# Altium schematic symbol library Principle Gallery.SCHLIB: 16 symbols
Pins are listed as number, name and electrical type; pins without a type are passive.

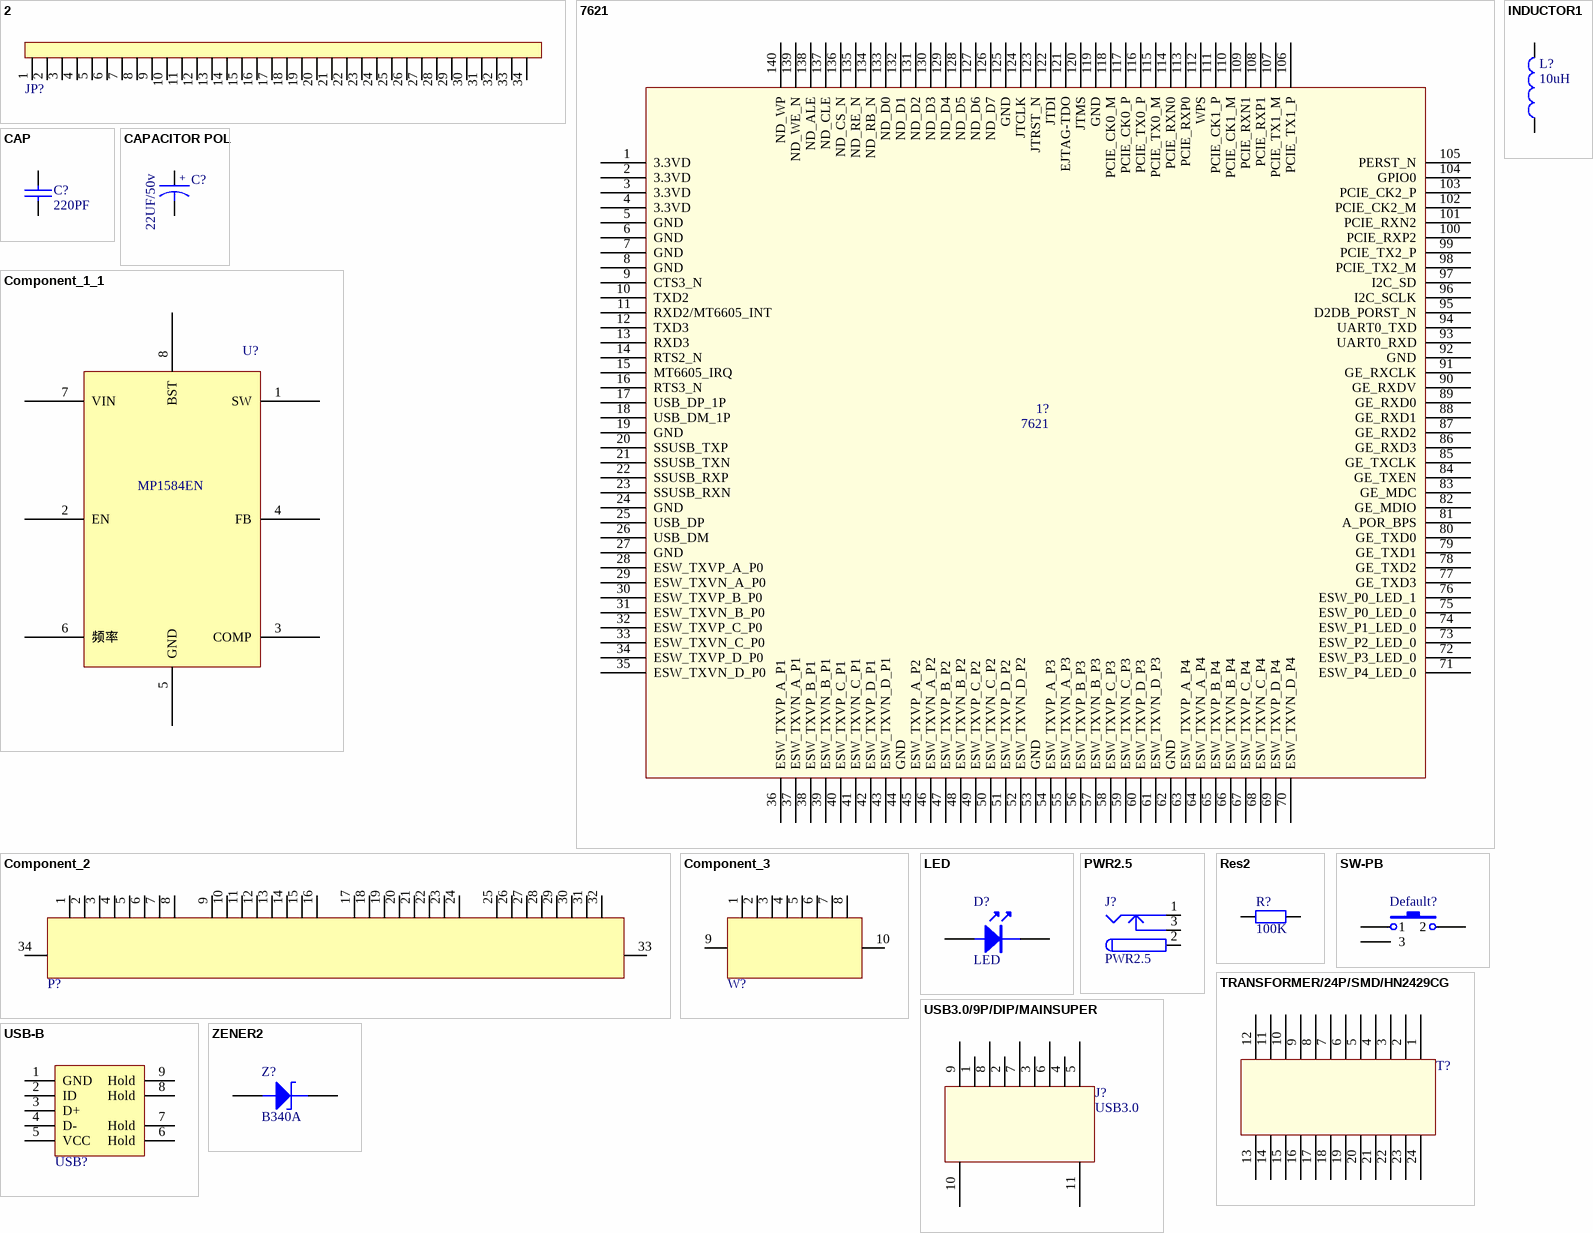
[diagram p0: symbols 2 to ZENER2]

## 2
designator JP?  (value not drawn)
footprint HDR2X17
footprint HDR2X17 (Connector; Header; 17x2 Position)
pins: 1, 2, 3, 4, 5, 6, 7, 8, 9, 10, 11, 12, 13, 14, 15, 16, 17, 18, 19, 20, 21, 22, 23, 24, 25, 26, 27, 28, 29, 30, 31, 32, 33, 34

## 7621
designator 1?
footprint HLK-7621
pins: 1 3.3VD, 2 3.3VD, 3 3.3VD, 4 3.3VD, 5 GND, 6 GND, 7 GND, 8 GND, 9 CTS3_N, 10 TXD2, 11 RXD2/MT6605_INT, 12 TXD3, 13 RXD3, 14 RTS2_N, 15 MT6605_IRQ, 16 RTS3_N, 17 USB_DP_1P, 18 USB_DM_1P, 19 GND, 20 SSUSB_TXP, 21 SSUSB_TXN, 22 SSUSB_RXP, 23 SSUSB_RXN, 24 GND, 25 USB_DP, 26 USB_DM, 27 GND, 28 ESW_TXVP_A_P0, 29 ESW_TXVN_A_P0, 30 ESW_TXVP_B_P0, 31 ESW_TXVN_B_P0, 32 ESW_TXVP_C_P0, 33 ESW_TXVN_C_P0, 34 ESW_TXVP_D_P0, 35 ESW_TXVN_D_P0, 36 ESW_TXVP_A_P1, 37 ESW_TXVN_A_P1, 38 ESW_TXVP_B_P1, 39 ESW_TXVN_B_P1, 40 ESW_TXVP_C_P1, 41 ESW_TXVN_C_P1, 42 ESW_TXVP_D_P1, 43 ESW_TXVN_D_P1, 44 GND, 45 ESW_TXVP_A_P2, 46 ESW_TXVN_A_P2, 47 ESW_TXVP_B_P2, 48 ESW_TXVN_B_P2, 49 ESW_TXVP_C_P2, 50 ESW_TXVN_C_P2, 51 ESW_TXVP_D_P2, 52 ESW_TXVN_D_P2, 53 GND, 54 ESW_TXVP_A_P3, 55 ESW_TXVN_A_P3, 56 ESW_TXVP_B_P3, 57 ESW_TXVN_B_P3, 58 ESW_TXVP_C_P3, 59 ESW_TXVN_C_P3, 60 ESW_TXVP_D_P3, 61 ESW_TXVN_D_P3, 62 GND, 63 ESW_TXVP_A_P4, 64 ESW_TXVN_A_P4, 65 ESW_TXVP_B_P4, 66 ESW_TXVN_B_P4, 67 ESW_TXVP_C_P4, 68 ESW_TXVN_C_P4, 69 ESW_TXVP_D_P4, 70 ESW_TXVN_D_P4, 71 ESW_P4_LED_0, 72 ESW_P3_LED_0, 73 ESW_P2_LED_0, 74 ESW_P1_LED_0, 75 ESW_P0_LED_0, 76 ESW_P0_LED_1, 77 GE_TXD3, 78 GE_TXD2, 79 GE_TXD1, 80 GE_TXD0, 81 A_POR_BPS, 82 GE_MDIO, 83 GE_MDC, 84 GE_TXEN, 85 GE_TXCLK, 86 GE_RXD3, 87 GE_RXD2, 88 GE_RXD1, 89 GE_RXD0, 90 GE_RXDV, 91 GE_RXCLK, 92 GND, 93 UART0_RXD, 94 UART0_TXD, 95 D2DB_PORST_N, 96 I2C_SCLK, 97 I2C_SD, 98 PCIE_TX2_M, 99 PCIE_TX2_P, 100 PCIE_RXP2, 101 PCIE_RXN2, 102 PCIE_CK2_M, 103 PCIE_CK2_P, 104 GPIO0, 105 PERST_N, 106 PCIE_TX1_P, 107 PCIE_TX1_M, 108 PCIE_RXP1, 109 PCIE_RXN1, 110 PCIE_CK1_M, 111 PCIE_CK1_P, 112 WPS, 113 PCIE_RXP0, 114 PCIE_RXN0, 115 PCIE_TX0_M, 116 PCIE_TX0_P, 117 PCIE_CK0_P, 118 PCIE_CK0_M, 119 GND, 120 JTMS, 121 EJTAG-TDO, 122 JTDI, 123 JTRST_N, 124 JTCLK, 125 GND, 126 ND_D7, 127 ND_D6, 128 ND_D5, 129 ND_D4, 130 ND_D3, 131 ND_D2, 132 ND_D1, 133 ND_D0, 134 ND_RB_N, 135 ND_RE_N, 136 ND_CS_N, 137 ND_CLE, 138 ND_ALE, 139 ND_WE_N, 140 ND_WP

## CAP
designator C?, comment 220PF
Capacitor
footprint 0603
footprint 0603M
footprint 0805
footprint 0603
pins: 1, 2

## CAPACITOR POL
designator C?, comment 22UF/50v
Capacitor
footprint 1005D
footprint 0805
footprint 0603
footprint CAP_SMT_8*10.5
pins: 1, 2
text: +

## Component_1_1
designator U?, comment MP1584EN
footprint SOP8_150
pins: 1 SW, 2 EN, 3 COMP, 4 FB, 5 GND, 6 频率, 7 VIN, 8 BST

## Component_2
designator P?  (value not drawn)
footprint PHJ8X4_N
pins: 1, 2, 3, 4, 5, 6, 7, 8, 9, 10, 11, 12, 13, 14, 15, 16, 17, 18, 19, 20, 21, 22, 23, 24, 25, 26, 27, 28, 29, 30, 31, 32, 33, 34

## Component_3
designator W?  (value not drawn)
footprint PCBComponent_1
pins: 1, 2, 3, 4, 5, 6, 7, 8, 9, 10

## INDUCTOR1
designator L?, comment 10uH
footprint L322520
footprint CD105 (10*9*5.4mm（长宽高）)
pins: 1, 2
2 alternate drawings of the same symbol

## LED
designator D?
footprint 0603LED
footprint 0603LED
footprint 0603LED
footprint 0603LED
footprint LED0603
footprint C1206
pins: 1, 2

## PWR2.5
designator J?
Low Voltage Power Supply Connector; Published: 17-Dec-2003; DatasheetDocument: 09-May-2002; Publisher: Altium Limited; ComponentLink1Description: Manufacturer Link; ComponentLink1URL: http://domino.kycon.com/internet/Products.html
pins: 1 (power), 2 (power), 3 (power)
2 alternate drawings of the same symbol

## Res2
designator R?, comment 100K
Resistor; Published: 8-Jun-2000; LatestRevisionDate: 17-Jul-2002; LatestRevisionNote: Re-released for DXP Platform.; PackageReference: AXIAL-0.4; Publisher: Altium Limited; Value: 100K
footprint AXIAL-0.4 (Resistor; 2 Leads)
simulation model RESISTOR (Resistor)
signal-integrity model Res
footprint 0603
footprint 0805
footprint 0603M
footprint 0603
pins: 1, 2

## SW-PB
designator Default?  (value not drawn)
Switch; Published: 24-Mar-1999; LatestRevisionDate: 17-Jul-2002; LatestRevisionNote: Re-released for DXP Platform.; PackageReference: SPST-2; Publisher: Altium Limited
footprint SPST-2 (Switch; 2 Leads)
footprint K5 (Footprint not found)
pins: 1, 2, 3

## TRANSFORMER/24P/SMD/HN2429CG
designator T?  (value not drawn)
footprint TRANSFORMER/24P/SMD/HN2429CG
footprint TRANSFORMER/24P/SMD/HN2429CG
pins: 1, 2, 3, 4, 5, 6, 7, 8, 9, 10, 11, 12, 13, 14, 15, 16, 17, 18, 19, 20, 21, 22, 23, 24

## USB3.0/9P/DIP/MAINSUPER
designator J?, comment USB3.0
pins: 1, 2, 3, 4, 5, 6, 7, 8, 9, 10, 11

## USB-B
designator USB?, comment USB1  (value not drawn)
footprint usb
pins: 1 GND, 2 ID, 3 D+, 4 D-, 5 VCC, 6 Hold, 7 Hold, 8 Hold, 9 Hold
2 alternate drawings of the same symbol

## ZENER2
designator Z?, comment B340A
Zener Diode
footprint 1005D
footprint SMA
pins: 1 A, 2 K